# Altium schematic symbol library ESP32-S2-MINI-2-N4R2.SchLib: 1 symbol
Pins are listed as number, name and electrical type; pins without a type are passive.

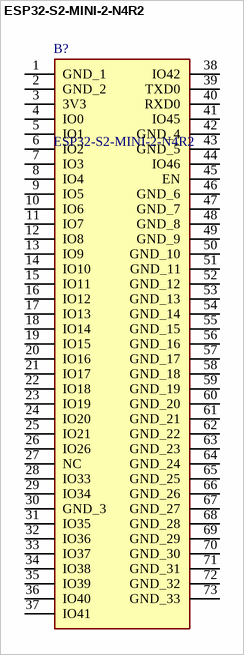
[diagram p0: symbol ESP32-S2-MINI-2-N4R2]

## ESP32-S2-MINI-2-N4R2
designator B?
WiFi Modules - 802.11 SMD module, ESP32-S2FN4R2 ECO1 with 4 MB flash, 2 MB PSRAM , PCB antenna; Manufacturer_Name: Espressif Systems; Geometry.Height: 2.55mm; Mouser Part Number: 356-ESP32MINI-2-N4R2; Mouser Price/Stock: https://www.mouser.co.uk/ProductDetail/Espressif-Systems/ESP32-S2-MINI-2-N4R2?qs=vvQtp7zwQdMvxoWH1ueCWQ%3D%3D; Manufacturer_Part_Number: ESP32-S2-MINI-2-N4R2; Datasheet Link: https://www.espressif.com/sites/default/files/documentation/esp32-s2-mini-2_esp32-s2-mini-2u_datasheet_en.pdf
footprint ESP32S2MINI2N4R2
pins: 1 GND_1, 2 GND_2, 3 3V3, 4 IO0, 5 IO1, 6 IO2, 7 IO3, 8 IO4, 9 IO5, 10 IO6, 11 IO7, 12 IO8, 13 IO9, 14 IO10, 15 IO11, 16 IO12, 17 IO13, 18 IO14, 19 IO15, 20 IO16, 21 IO17, 22 IO18, 23 IO19, 24 IO20, 25 IO21, 26 IO26, 27 NC, 28 IO33, 29 IO34, 30 GND_3, 31 IO35, 32 IO36, 33 IO37, 34 IO38, 35 IO39, 36 IO40, 37 IO41, 38 IO42, 39 TXD0, 40 RXD0, 41 IO45, 42 GND_4, 43 GND_5, 44 IO46, 45 EN, 46 GND_6, 47 GND_7, 48 GND_8, 49 GND_9, 50 GND_10, 51 GND_11, 52 GND_12, 53 GND_13, 54 GND_14, 55 GND_15, 56 GND_16, 57 GND_17, 58 GND_18, 59 GND_19, 60 GND_20, 61 GND_21, 62 GND_22, 63 GND_23, 64 GND_24, 65 GND_25, 66 GND_26, 67 GND_27, 68 GND_28, 69 GND_29, 70 GND_30, 71 GND_31, 72 GND_32, 73 GND_33